# Altium schematic symbol library TPS55288RPMR.SchLib: 1 symbol
Pins are listed as number, name and electrical type; pins without a type are passive.

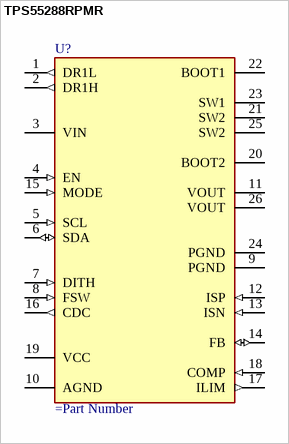
[diagram p0: symbol TPS55288RPMR]

## TPS55288RPMR
designator U?
Copyright: Copyright (C) 2026 Ultra Librarian. All rights reserved.
pins: 1 DR1L (out), 2 DR1H (out), 3 VIN (power), 4 EN (in), 5 SCL (in), 6 SDA (io), 7 DITH (in), 8 FSW (in), 9 PGND (power), 10 AGND (power), 11 VOUT (power), 12 ISP (in), 13 ISN (in), 14 FB (io), 15 MODE (in), 16 CDC (out), 17 ILIM (out), 18 COMP (in), 19 VCC (power), 20 BOOT2 (power), 21 SW2 (power), 22 BOOT1 (power), 23 SW1 (power), 24 PGND (power), 25 SW2 (power), 26 VOUT (power)